# EAGLE library part US6M1 (library transistor-fet)
MOSFET N/P-CH 30V/20V
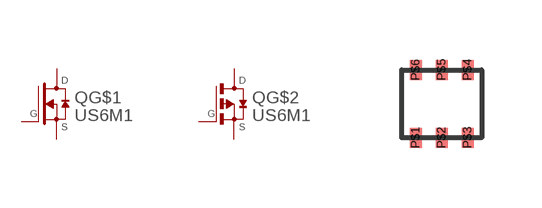
[diagram p12: symbol with the pads of TUMT6; footprint TUMT6]

Designator prefix Q; gates G$1=DMOS-N G$2=EMOS-PD

## US6M1 (DIGIKEY: US6M1CT-ND; MFR: Rohm Semiconductor; MPN: US6M1TR; P1I: o; VOLT: 30,20V)  [TUMT6]
P$1  G$1:S  pas
P$2  G$1:G  pas
P$3  G$2:D  pas
P$4  G$2:S  pas
P$5  G$2:G  pas
P$6  G$1:D  pas

## Footprint TUMT6 (pad centres in mm)
smd 0.3 x 0.5: P$1 -0.65,-0.85; P$2 0,-0.85; P$3 0.65,-0.85; P$4 0.65,0.85; P$5 0,0.85; P$6 -0.65,0.85